# EAGLE library part USB2517 (library USB2517)
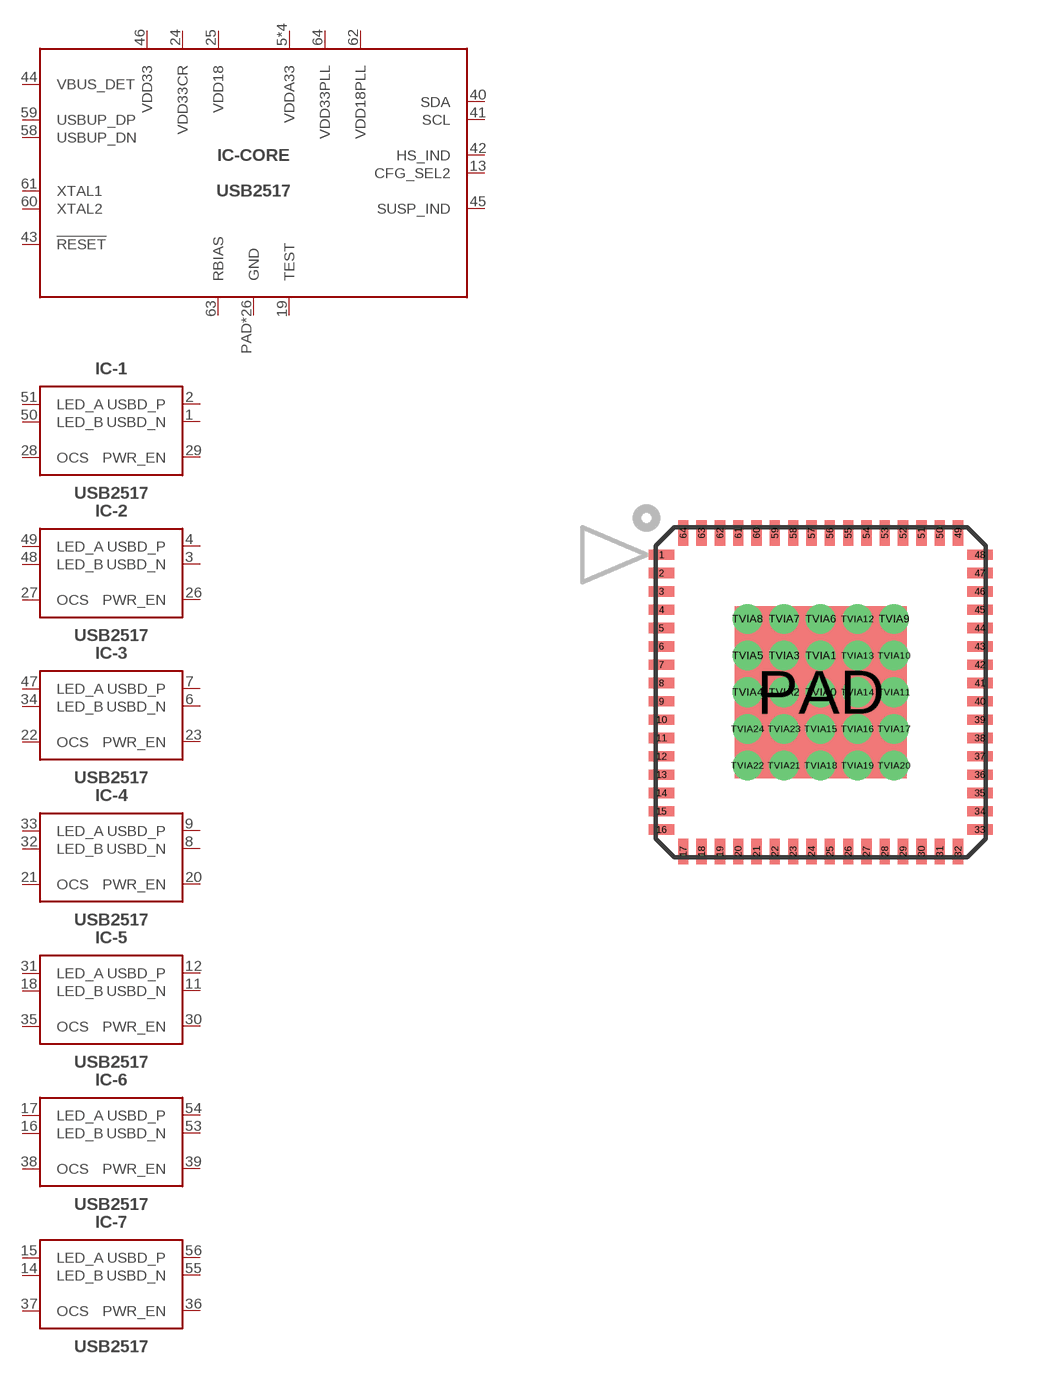
[diagram p0: symbol with the pads of QFN-64-0.5; footprint QFN-64-0.5]

Designator prefix IC; gates -CORE=USB2517_CORE -1=USB2517_USBDN -2=USB2517_USBDN -3=USB2517_USBDN -4=USB2517_USBDN -5=USB2517_USBDN -6=USB2517_USBDN -7=USB2517_USBDN

## USB2517, USB2517I  [QFN-64-0.5]
1  -1:USBD_N
2  -1:USBD_P
3  -2:USBD_N
4  -2:USBD_P
5  -CORE:VDDA33  in
6  -3:USBD_N
7  -3:USBD_P
8  -4:USBD_N
9  -4:USBD_P
10  -CORE:VDDA33  in
11  -5:USBD_N
12  -5:USBD_P
13  -CORE:CFG_SEL2
14  -7:LED_B
15  -7:LED_A
16  -6:LED_B
17  -6:LED_A
18  -5:LED_B
19  -CORE:TEST  nc
20  -4:PWR_EN  out
21  -4:OCS  in
22  -3:OCS  in
23  -3:PWR_EN  out
24  -CORE:VDD33CR  in
25  -CORE:VDD18  in
26  -2:PWR_EN  out
27  -2:OCS  in
28  -1:OCS  in
29  -1:PWR_EN  out
30  -5:PWR_EN  out
31  -5:LED_A
32  -4:LED_B
33  -4:LED_A
34  -3:LED_B
35  -5:OCS  in
36  -7:PWR_EN  out
37  -7:OCS  in
38  -6:OCS  in
39  -6:PWR_EN  out
40  -CORE:SDA
41  -CORE:SCL  in
42  -CORE:HS_IND
43  -CORE:!RESET  in
44  -CORE:VBUS_DET  in
45  -CORE:SUSP_IND
46  -CORE:VDD33  in
47  -3:LED_A
48  -2:LED_B
49  -2:LED_A
50  -1:LED_B
51  -1:LED_A
52  -CORE:VDDA33  in
53  -6:USBD_N
54  -6:USBD_P
55  -7:USBD_N
56  -7:USBD_P
57  -CORE:VDDA33  in
58  -CORE:USBUP_DN
59  -CORE:USBUP_DP
60  -CORE:XTAL2  out
61  -CORE:XTAL1  in
62  -CORE:VDD18PLL  in
63  -CORE:RBIAS  in
64  -CORE:VDD33PLL  in
PAD  -CORE:GND  in
TVIA0  -CORE:GND  in
TVIA1  -CORE:GND  in
TVIA2  -CORE:GND  in
TVIA3  -CORE:GND  in
TVIA4  -CORE:GND  in
TVIA5  -CORE:GND  in
TVIA6  -CORE:GND  in
TVIA7  -CORE:GND  in
TVIA8  -CORE:GND  in
TVIA9  -CORE:GND  in
TVIA10  -CORE:GND  in
TVIA11  -CORE:GND  in
TVIA12  -CORE:GND  in
TVIA13  -CORE:GND  in
TVIA14  -CORE:GND  in
TVIA15  -CORE:GND  in
TVIA16  -CORE:GND  in
TVIA17  -CORE:GND  in
TVIA18  -CORE:GND  in
TVIA19  -CORE:GND  in
TVIA20  -CORE:GND  in
TVIA21  -CORE:GND  in
TVIA22  -CORE:GND  in
TVIA23  -CORE:GND  in
TVIA24  -CORE:GND  in

## Footprint QFN-64-0.5 (pad centres in mm)
smd 0.69 x 0.28: 1 -4.345,3.75; 2 -4.345,3.25; 3 -4.345,2.75; 4 -4.345,2.25; 5 -4.345,1.75; 6 -4.345,1.25; 7 -4.345,0.75; 8 -4.345,0.25; 9 -4.345,-0.25; 10 -4.345,-0.75; 11 -4.345,-1.25; 12 -4.345,-1.75; 13 -4.345,-2.25; 14 -4.345,-2.75; 15 -4.345,-3.25; 16 -4.345,-3.75; 33 4.345,-3.75; 34 4.345,-3.25; 35 4.345,-2.75; 36 4.345,-2.25; 37 4.345,-1.75; 38 4.345,-1.25; 39 4.345,-0.75; 40 4.345,-0.25; 41 4.345,0.25; 42 4.345,0.75; 43 4.345,1.25; 44 4.345,1.75; 45 4.345,2.25; 46 4.345,2.75; 47 4.345,3.25; 48 4.345,3.75
smd 0.28 x 0.69: 17 -3.75,-4.345; 18 -3.25,-4.345; 19 -2.75,-4.345; 20 -2.25,-4.345; 21 -1.75,-4.345; 22 -1.25,-4.345; 23 -0.75,-4.345; 24 -0.25,-4.345; 25 0.25,-4.345; 26 0.75,-4.345; 27 1.25,-4.345; 28 1.75,-4.345; 29 2.25,-4.345; 30 2.75,-4.345; 31 3.25,-4.345; 32 3.75,-4.345; 49 3.75,4.345; 50 3.25,4.345; 51 2.75,4.345; 52 2.25,4.345; 53 1.75,4.345; 54 1.25,4.345; 55 0.75,4.345; 56 0.25,4.345; 57 -0.25,4.345; 58 -0.75,4.345; 59 -1.25,4.345; 60 -1.75,4.345; 61 -2.25,4.345; 62 -2.75,4.345; 63 -3.25,4.345; 64 -3.75,4.345
smd 4.7 x 4.7: PAD 0,0
drill 0.3: TVIA0 0,0; TVIA1 0,1; TVIA2 -1,0; TVIA3 -1,1; TVIA4 -2,0; TVIA5 -2,1; TVIA6 0,2; TVIA7 -1,2; TVIA8 -2,2; TVIA9 2,2; TVIA10 2,1; TVIA11 2,0; TVIA12 1,2; TVIA13 1,1; TVIA14 1,0; TVIA15 0,-1; TVIA16 1,-1; TVIA17 2,-1; TVIA18 0,-2; TVIA19 1,-2; TVIA20 2,-2; TVIA21 -1,-2; TVIA22 -2,-2; TVIA23 -1,-1; TVIA24 -2,-1